# Altium integrated library PZ-PAJ7620手势识别.IntLib: 5 symbols
Pins are listed as number, name and electrical type; pins without a type are passive.

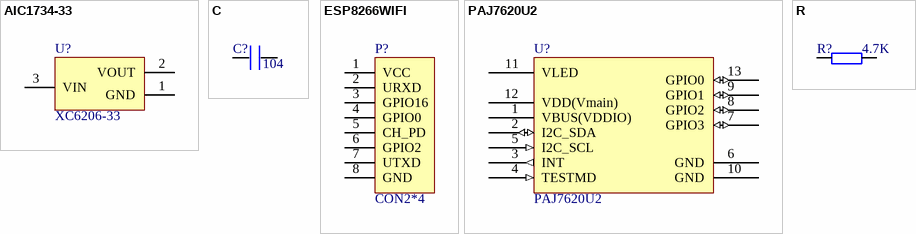
[diagram p0: symbols AIC1734-33 to R]

## AIC1734-33
designator U?, comment XC6206-33
footprint SOT-23
pins: 1 GND, 2 VOUT, 3 VIN

## C
designator C?, comment 104
footprint 0603P
footprint 0805
footprint CC5.08 (CAP0.1)
footprint CC4.572 (222/332)
footprint 1206
footprint 1210
footprint CC6.096
footprint CC7.62
footprint CVAR (4MM*6.6MM)
footprint C 5.08    7.5mm x4.5mm
footprint C  P5-7-10  W=4mm (P5/P7/P10      W=4mm)
footprint C  P5-7-10  W=6mm (P5/P7/P10      W=6mm)
footprint C  P5-7-10  W=9mm (P5/P7/P10      W=9mm)
pins: 1, 2

## ESP8266WIFI
designator P?, comment CON2*4
footprint HDR2X4 (Connector; Header; 4x2 Position)
footprint HDR2X4
pins: 1 VCC, 2 URXD, 3 GPIO16, 4 GPIO0, 5 CH_PD, 6 GPIO2, 7 UTXD, 8 GND

## PAJ7620U2
designator U?
footprint PAJ7620U2
pins: 1 VBUS(VDDIO) (power), 2 I2C_SDA (io), 3 INT (out), 4 TESTMD (in), 5 I2C_SCL (in), 6 GND (power), 7 GPIO3 (io), 8 GPIO2 (io), 9 GPIO1 (io), 10 GND (power), 11 VLED (power), 12 VDD(Vmain) (power), 13 GPIO0 (io)

## R
designator R?, comment 4.7K
footprint 0805
footprint 0603P
footprint RL (10o/0.7uH)
footprint R16.0 (RX/1W)
footprint 1206
footprint 1210
footprint R20.0 (RX/2W)
footprint R10.16 (STD)
footprint RLN9 (13.5mm*5.1mm)
pins: 1, 2